# Altium schematic symbol library RJ45-8P8C.A1.SchLib: 1 symbol
Pins are listed as number, name and electrical type; pins without a type are passive.

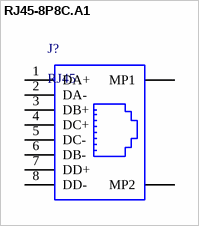
[diagram p0: symbol RJ45-8P8C.A1]

## RJ45-8P8C.A1
designator J?, comment RJ45
pins: 1 DA+, 2 DA-, 3 DB+, 4 DC+, 5 DC-, 6 DB-, 7 DD+, 8 DD-, MP1, MP2